# EAGLE library part AD8662 (library Analog Devices)
AD8661/AD8662/AD8664 Low Noise, Precision 16 V CMOS, Rail-to-Rail Operational Amplifiers Datasheet: http://www.analog.com/static/imported-files/data_sheets/AD8661_8662.pdf Website: http://www.analog.com/en/all-operational-amplifiers-op-amps/operational-amplifiers-op-amps/ad8664/products/product.html
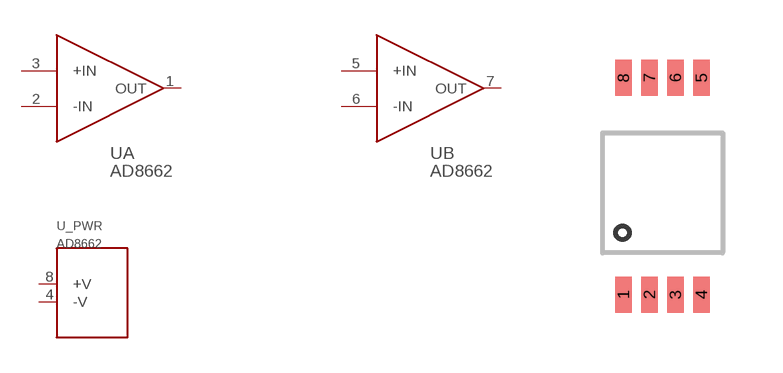
[diagram p1: symbol with the pads of MSOP-08; footprint MSOP-08]

Designator prefix -; gates A=AD8664_AMP B=AD8664_AMP _PWR=AD8662_PWR

## AD8662  [MSOP-08]
1  A:OUT  out
2  A:-IN  in
3  A:+IN  in
4  _PWR:-V  pwr
5  B:+IN  in
6  B:-IN  in
7  B:OUT  out
8  _PWR:+V  pwr

## Footprint MSOP-08 (pad centres in mm)
MS-8, 8-Lead Plastic MSOP Based off LTC DWG # 05-08-1660 Rev G: http://cds.linear.com/docs/en/packaging/05081660_G_MS8.pdf
smd 0.42 x 0.889: 1 -0.975,-2.55; 2 -0.325,-2.55; 3 0.325,-2.55; 4 0.975,-2.55; 5 0.975,2.875; 6 0.325,2.875; 7 -0.325,2.875; 8 -0.975,2.875